# EAGLE library part AMPERIMETRO (library ecar)
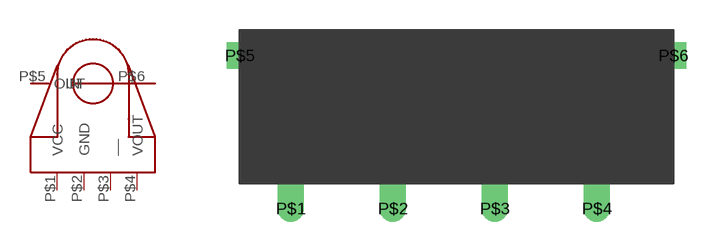
[diagram p2: symbol with the pads of AMPERIMETRO; footprint AMPERIMETRO]

Designator prefix -

## AMPERIMETRO  [AMPERIMETRO]
P$1  VCC
P$2  GND
P$3  __
P$4  VOUT
P$5  IN
P$6  OUT

## Footprint AMPERIMETRO (pad centres in mm)
drill 0.8 offset: P$1 2.54,-1.27; P$2 7.62,-1.27; P$3 12.7,-1.27; P$4 17.78,-1.27
drill 0.8 square: P$5 0,6.35; P$6 21.59,6.35